# Altium footprint library ME6221CM5G.PcbLib: 1 footprints
Each footprint in its own frame and in the unit in brackets; x right, y up, seen from the top. Pads: shape width x height; smd on the part's side, far side on the other; paste and mask are expansions set on the pad; w line width, h text height; cw(c..) or ccw(c..) is an arc to the next point about the centre after c.
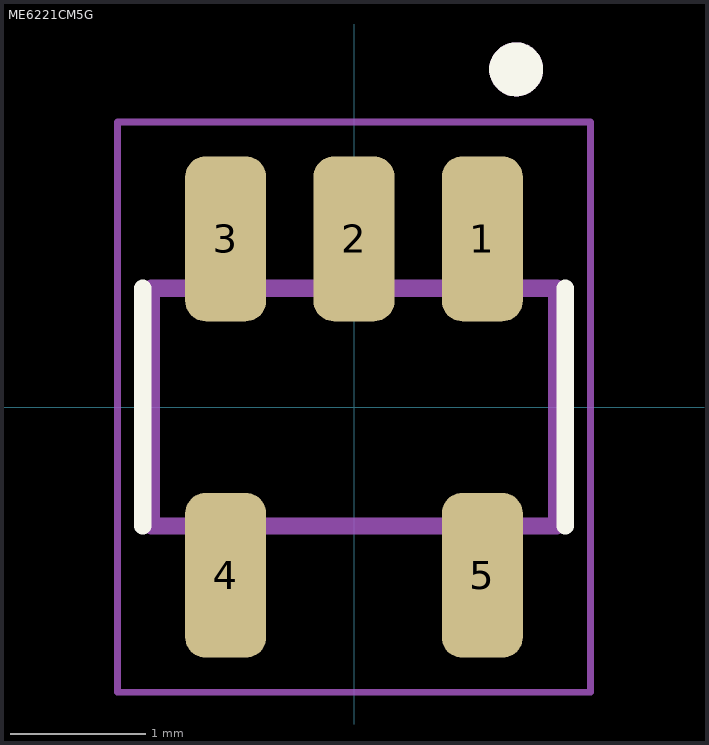
[diagram p0: the footprint, top view; thin cyan lines are the x and y axes]

## ME6221CM5G [mm]
pads (5):
  rrect50% 0.6x1.22 smd: 1(0.95,1.245) 2(0,1.245) 3(-0.95,1.245) 4(-0.95,-1.245) 5(0.95,-1.245)
Top Overlay:
  circle w0.2: c1.2,2.5 r0.1
  lines w0.127: -1.564,-0.88 -1.564,0.88 ; 1.564,-0.88 1.564,0.88
Mechanical 13:
  circle w0.2: c1.2,2.5 r0.1
  lines w0.127: -1.5,-0.88 1.5,-0.88 1.5,0.88 -1.5,0.88 -1.5,-0.88
Mechanical 15:
  lines w0.05: -1.75,-2.11 1.75,-2.11 1.75,2.11 -1.75,2.11 -1.75,-2.11
3D body "SOT23-5.STEP": height 1.1, standoff 0, extent -1.5,-1.25 1.5,1.25